# EAGLE library part NCJ9FI (library con-neutrik_xlr_2)
NCJ9FI Combination - 3 pin Female XLR - 3 pin 1/4" switched socket Combo I series Without or without retention latch Source: www.neutrik.com/
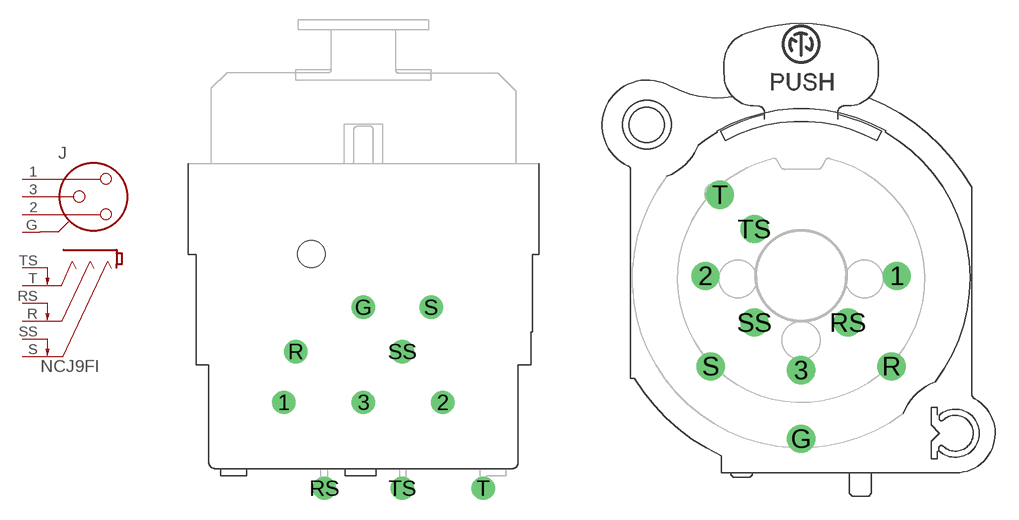
[diagram p3: symbol with the pads of NCJ9FI-H; footprints NCJ9FI-H, NCJ9FI-V]

Designator prefix J

## NCJ9FI-H  [NCJ9FI-H]
1  1  pas
2  2  pas
3  3  pas
G  G  pas
R  R  pas
RS  RS  pas
S  S  pas
SS  SS  pas
T  T  pas
TS  TS  pas

## NCJ9FI-V  [NCJ9FI-V]
Pads as for NCJ9FI-H

## NCJ9FI-H-0  [NCJ9FI-H]
Pads as for NCJ9FI-H

## NCJ9FI-V-0  [NCJ9FI-V]
Pads as for NCJ9FI-H

## Footprint NCJ9FI-H (pad centres in mm)
NCJ9FI-H Combo I Series XLR/3 Pole Jack switched - 3 pole 1/4" all switched Horizontal orientation (with or without retention latch) Source: www.neutrik.com
drill 1.2: 1 -6.1,-18.4; 2 6.1,-18.4; 3 0,-18.4; G 0,-11.1; R -5.2,-14.5; RS -3,-25; S 5.2,-11.1; SS 3,-14.5; T 9.2,-25; TS 3,-25
hole 2.1 at -4,-7

## Footprint NCJ9FI-V (pad centres in mm)
NCJ9FI-V Combo I Series XLR/3 Pole Jack switched - 3 pole 1/4" all switched Vertical orientation (with or without retention latch) Source: www.neutrik.com
drill 1.2: 1 6.15,0; 2 -6.15,0; 3 0,-6.05; G 0,-10.45; R 5.8,-5.8; RS 3,-3; S -5.8,-5.8; SS -3,-3; T -5.2,5.2; TS -3,3